# Altium footprint library Connector_Phoenix_MC.PcbLib: 180 footprints (part 6 of 12)
Each footprint in its own frame and in the unit in brackets; x right, y up, seen from the top. Pads: shape width x height; smd on the part's side, far side on the other; paste and mask are expansions set on the pad; w line width, h text height; cw(c..) or ccw(c..) is an arc to the next point about the centre after c.
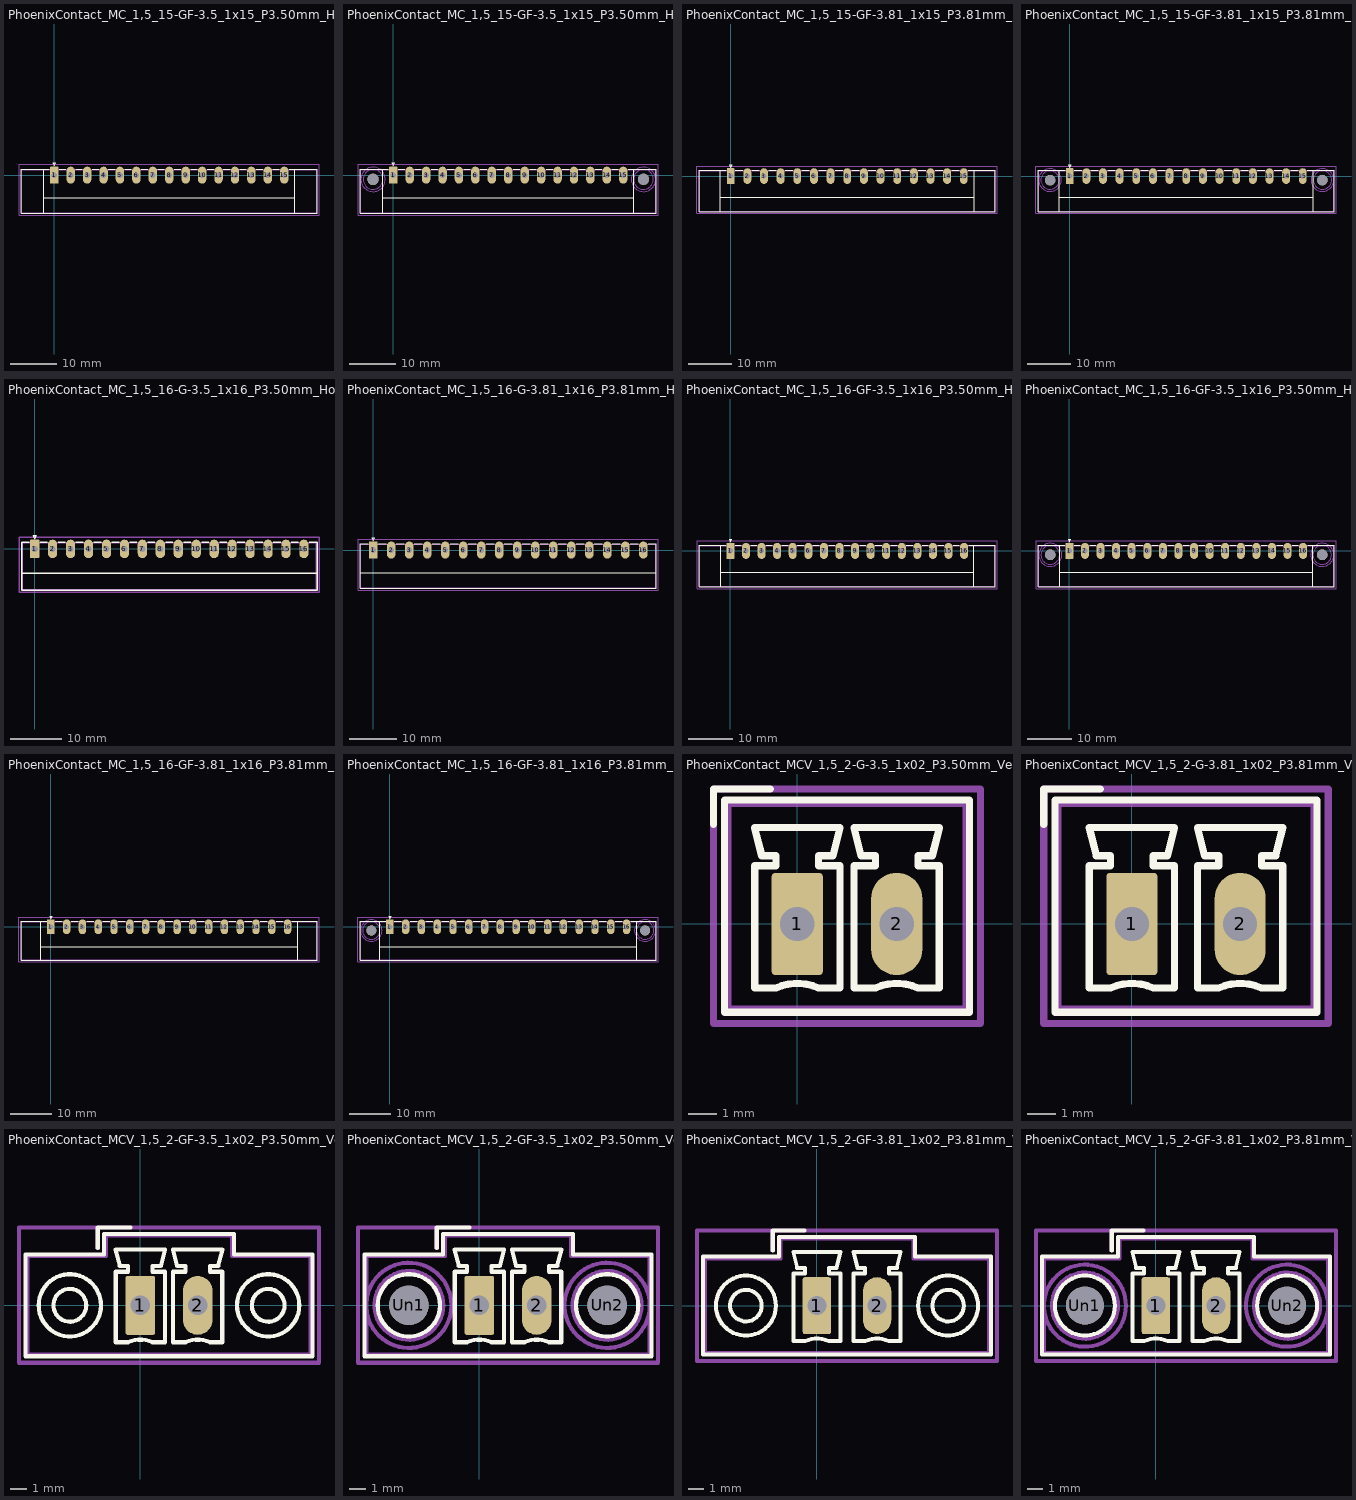
[diagram p5: the footprints below, top view; thin cyan lines are the x and y axes]

## PhoenixContact_MC_1,5_15-GF-3.5_1x15_P3.50mm_Horizontal_ThreadedFlange [mm]
pads (15):
  rrect14% 1.8x3.6 hole 1.2: 1(0,0)
  rrect100% 1.8x3.6 hole 1.2: 2(3.5,0) 3(7,0) 4(10.5,0) 5(14,0) 6(17.5,0) 7(21,0) 8(24.5,0) 9(28,0) 10(31.5,0) 11(35,0) 12(38.5,0) 13(42,0) 14(45.5,0) 15(49,0)
F.SilkS:
  lines w0.254: -2.21,-8.11 -2.21,1.31 ; -2.21,-4.8 51.21,-4.8 ; -1.05,1.31 -7.01,1.31 -7.01,-8.11 56.01,-8.11 56.01,1.31 50.05,1.31 ; 1.05,1.31 2.45,1.31 ; 4.55,1.31 5.95,1.31 ; 8.05,1.31 9.45,1.31 ; 11.55,1.31 12.95,1.31 ; 15.05,1.31 16.45,1.31 ; 18.55,1.31 19.95,1.31 ; 22.05,1.31 23.45,1.31 ; 25.55,1.31 26.95,1.31 ; 29.05,1.31 30.45,1.31 ; 32.55,1.31 33.95,1.31 ; 36.05,1.31 37.45,1.31 ; 39.55,1.31 40.95,1.31 ; 43.05,1.31 44.45,1.31 ; 46.55,1.31 47.95,1.31 ; 51.21,-8.11 51.21,1.31 ; -0.3,2.6 0,2 0.3,2.6 -0.3,2.6
Top Assembly:
  lines w0.254: -0.8,1.2 0,0 0.8,1.2 ; -6.9,-8 55.9,-8 55.9,1.2 -6.9,1.2 -6.9,-8
  text "'.Designator'" at 20.453,-0.34 h1
Top Courtyard:
  lines w0.254: -7.51,-8.5 56.4,-8.5 56.4,2.3 -7.51,2.3 -7.51,-8.5
Top Designator:
  text ".Designator" at 16.827,-3.458 h1.52

## PhoenixContact_MC_1,5_15-GF-3.5_1x15_P3.50mm_Horizontal_ThreadedFlange_MountHole [mm]
pads (17):
  rrect14% 1.8x3.6 hole 1.2: 1(0,0)
  rrect100% 1.8x3.6 hole 1.2: 2(3.5,0) 3(7,0) 4(10.5,0) 5(14,0) 6(17.5,0) 7(21,0) 8(24.5,0) 9(28,0) 10(31.5,0) 11(35,0) 12(38.5,0) 13(42,0) 14(45.5,0) 15(49,0)
  round 2.4 hole 2.4: Un1(-4.3,-0.9) Un2(53.3,-0.9)
F.SilkS:
  lines w0.254: -2.21,-8.11 -2.21,1.31 ; -2.21,-4.8 51.21,-4.8 ; -1.05,1.31 -7.01,1.31 -7.01,-8.11 56.01,-8.11 56.01,1.31 50.05,1.31 ; 1.05,1.31 2.45,1.31 ; 4.55,1.31 5.95,1.31 ; 8.05,1.31 9.45,1.31 ; 11.55,1.31 12.95,1.31 ; 15.05,1.31 16.45,1.31 ; 18.55,1.31 19.95,1.31 ; 22.05,1.31 23.45,1.31 ; 25.55,1.31 26.95,1.31 ; 29.05,1.31 30.45,1.31 ; 32.55,1.31 33.95,1.31 ; 36.05,1.31 37.45,1.31 ; 39.55,1.31 40.95,1.31 ; 43.05,1.31 44.45,1.31 ; 46.55,1.31 47.95,1.31 ; 51.21,-8.11 51.21,1.31 ; -0.3,2.6 0,2 0.3,2.6 -0.3,2.6
B.SilkS:
  circle w0.254: c53.3,-0.9 r2.21
  circle w0.254: c-4.3,-0.9 r2.21
Top Assembly:
  lines w0.254: -0.8,1.2 0,0 0.8,1.2 ; -6.9,-8 55.9,-8 55.9,1.2 -6.9,1.2 -6.9,-8
  text "'.Designator'" at 20.453,-0.34 h1
Bottom Assembly:
  circle w0.254: c53.3,-0.9 r2.1
  circle w0.254: c-4.3,-0.9 r2.1
Top Courtyard:
  lines w0.254: -7.51,-8.5 56.4,-8.5 56.4,2.3 -7.51,2.3 -7.51,-8.5
Bottom Courtyard:
  circle w0.254: c53.3,-0.9 r2.6
  circle w0.254: c-4.3,-0.9 r2.6
Top Designator:
  text ".Designator" at 16.827,-3.458 h1.52

## PhoenixContact_MC_1,5_15-GF-3.81_1x15_P3.81mm_Horizontal_ThreadedFlange [mm]
pads (15):
  rrect14% 1.8x3.6 hole 1.2: 1(0,0)
  rrect100% 1.8x3.6 hole 1.2: 2(3.81,0) 3(7.62,0) 4(11.43,0) 5(15.24,0) 6(19.05,0) 7(22.86,0) 8(26.67,0) 9(30.48,0) 10(34.29,0) 11(38.1,0) 12(41.91,0) 13(45.72,0) 14(49.53,0) 15(53.34,0)
F.SilkS:
  lines w0.254: -2.41,-8.11 -2.41,1.31 ; -2.41,-4.8 55.75,-4.8 ; -1.05,1.31 -7.21,1.31 -7.21,-8.11 60.55,-8.11 60.55,1.31 54.39,1.31 ; 1.05,1.31 2.76,1.31 ; 4.86,1.31 6.57,1.31 ; 8.67,1.31 10.38,1.31 ; 12.48,1.31 14.19,1.31 ; 16.29,1.31 18,1.31 ; 20.1,1.31 21.81,1.31 ; 23.91,1.31 25.62,1.31 ; 27.72,1.31 29.43,1.31 ; 31.53,1.31 33.24,1.31 ; 35.34,1.31 37.05,1.31 ; 39.15,1.31 40.86,1.31 ; 42.96,1.31 44.67,1.31 ; 46.77,1.31 48.48,1.31 ; 50.58,1.31 52.29,1.31 ; 55.75,-8.11 55.75,1.31 ; -0.3,2.6 0,2 0.3,2.6 -0.3,2.6
Top Assembly:
  lines w0.254: -0.8,1.2 0,0 0.8,1.2 ; -7.1,-8 60.44,-8 60.44,1.2 -7.1,1.2 -7.1,-8
  text "'.Designator'" at 22.623,-0.34 h1
Top Courtyard:
  lines w0.254: -7.71,-8.5 60.94,-8.5 60.94,2.3 -7.71,2.3 -7.71,-8.5
Top Designator:
  text ".Designator" at 18.997,-3.458 h1.52

## PhoenixContact_MC_1,5_15-GF-3.81_1x15_P3.81mm_Horizontal_ThreadedFlange_MountHole [mm]
pads (17):
  rrect14% 1.8x3.6 hole 1.2: 1(0,0)
  rrect100% 1.8x3.6 hole 1.2: 2(3.81,0) 3(7.62,0) 4(11.43,0) 5(15.24,0) 6(19.05,0) 7(22.86,0) 8(26.67,0) 9(30.48,0) 10(34.29,0) 11(38.1,0) 12(41.91,0) 13(45.72,0) 14(49.53,0) 15(53.34,0)
  round 2.4 hole 2.4: Un1(-4.5,-0.9) Un2(57.84,-0.9)
F.SilkS:
  lines w0.254: -2.41,-8.11 -2.41,1.31 ; -2.41,-4.8 55.75,-4.8 ; -1.05,1.31 -7.21,1.31 -7.21,-8.11 60.55,-8.11 60.55,1.31 54.39,1.31 ; 1.05,1.31 2.76,1.31 ; 4.86,1.31 6.57,1.31 ; 8.67,1.31 10.38,1.31 ; 12.48,1.31 14.19,1.31 ; 16.29,1.31 18,1.31 ; 20.1,1.31 21.81,1.31 ; 23.91,1.31 25.62,1.31 ; 27.72,1.31 29.43,1.31 ; 31.53,1.31 33.24,1.31 ; 35.34,1.31 37.05,1.31 ; 39.15,1.31 40.86,1.31 ; 42.96,1.31 44.67,1.31 ; 46.77,1.31 48.48,1.31 ; 50.58,1.31 52.29,1.31 ; 55.75,-8.11 55.75,1.31 ; -0.3,2.6 0,2 0.3,2.6 -0.3,2.6
B.SilkS:
  circle w0.254: c57.84,-0.9 r2.21
  circle w0.254: c-4.5,-0.9 r2.21
Top Assembly:
  lines w0.254: -0.8,1.2 0,0 0.8,1.2 ; -7.1,-8 60.44,-8 60.44,1.2 -7.1,1.2 -7.1,-8
  text "'.Designator'" at 22.623,-0.34 h1
Bottom Assembly:
  circle w0.254: c57.84,-0.9 r2.1
  circle w0.254: c-4.5,-0.9 r2.1
Top Courtyard:
  lines w0.254: -7.71,-8.5 60.94,-8.5 60.94,2.3 -7.71,2.3 -7.71,-8.5
Bottom Courtyard:
  circle w0.254: c57.84,-0.9 r2.6
  circle w0.254: c-4.5,-0.9 r2.6
Top Designator:
  text ".Designator" at 18.997,-3.458 h1.52

## PhoenixContact_MC_1,5_16-G-3.5_1x16_P3.50mm_Horizontal [mm]
pads (16):
  rrect14% 1.8x3.6 hole 1.2: 1(0,0)
  rrect100% 1.8x3.6 hole 1.2: 2(3.5,0) 3(7,0) 4(10.5,0) 5(14,0) 6(17.5,0) 7(21,0) 8(24.5,0) 9(28,0) 10(31.5,0) 11(35,0) 12(38.5,0) 13(42,0) 14(45.5,0) 15(49,0) 16(52.5,0)
F.SilkS:
  lines w0.254: -2.56,-4.8 55.06,-4.8 ; -1.05,1.31 -2.56,1.31 -2.56,-8.11 55.06,-8.11 55.06,1.31 53.55,1.31 ; 1.05,1.31 2.45,1.31 ; 4.55,1.31 5.95,1.31 ; 8.05,1.31 9.45,1.31 ; 11.55,1.31 12.95,1.31 ; 15.05,1.31 16.45,1.31 ; 18.55,1.31 19.95,1.31 ; 22.05,1.31 23.45,1.31 ; 25.55,1.31 26.95,1.31 ; 29.05,1.31 30.45,1.31 ; 32.55,1.31 33.95,1.31 ; 36.05,1.31 37.45,1.31 ; 39.55,1.31 40.95,1.31 ; 43.05,1.31 44.45,1.31 ; 46.55,1.31 47.95,1.31 ; 50.05,1.31 51.45,1.31 ; -0.3,2.6 0,2 0.3,2.6 -0.3,2.6
Top Assembly:
  lines w0.254: -0.8,1.2 0,0 0.8,1.2 ; -2.45,-8 54.95,-8 54.95,1.2 -2.45,1.2 -2.45,-8
  text "'.Designator'" at 22.203,-0.34 h1
Top Courtyard:
  lines w0.254: -3.06,-8.5 55.45,-8.5 55.45,2.3 -3.06,2.3 -3.06,-8.5
Top Designator:
  text ".Designator" at 18.577,-3.458 h1.52

## PhoenixContact_MC_1,5_16-G-3.81_1x16_P3.81mm_Horizontal [mm]
pads (16):
  rrect14% 1.8x3.6 hole 1.2: 1(0,0)
  rrect100% 1.8x3.6 hole 1.2: 2(3.81,0) 3(7.62,0) 4(11.43,0) 5(15.24,0) 6(19.05,0) 7(22.86,0) 8(26.67,0) 9(30.48,0) 10(34.29,0) 11(38.1,0) 12(41.91,0) 13(45.72,0) 14(49.53,0) 15(53.34,0) 16(57.15,0)
F.SilkS:
  lines w0.254: -2.71,-4.8 59.86,-4.8 ; -1.05,1.31 -2.71,1.31 -2.71,-8.11 59.86,-8.11 59.86,1.31 58.2,1.31 ; 1.05,1.31 2.76,1.31 ; 4.86,1.31 6.57,1.31 ; 8.67,1.31 10.38,1.31 ; 12.48,1.31 14.19,1.31 ; 16.29,1.31 18,1.31 ; 20.1,1.31 21.81,1.31 ; 23.91,1.31 25.62,1.31 ; 27.72,1.31 29.43,1.31 ; 31.53,1.31 33.24,1.31 ; 35.34,1.31 37.05,1.31 ; 39.15,1.31 40.86,1.31 ; 42.96,1.31 44.67,1.31 ; 46.77,1.31 48.48,1.31 ; 50.58,1.31 52.29,1.31 ; 54.39,1.31 56.1,1.31 ; -0.3,2.6 0,2 0.3,2.6 -0.3,2.6
Top Assembly:
  lines w0.254: -0.8,1.2 0,0 0.8,1.2 ; -2.6,-8 59.75,-8 59.75,1.2 -2.6,1.2 -2.6,-8
  text "'.Designator'" at 24.533,-0.34 h1
Top Courtyard:
  lines w0.254: -3.21,-8.5 60.25,-8.5 60.25,2.3 -3.21,2.3 -3.21,-8.5
Top Designator:
  text ".Designator" at 20.902,-3.458 h1.52

## PhoenixContact_MC_1,5_16-GF-3.5_1x16_P3.50mm_Horizontal_ThreadedFlange [mm]
pads (16):
  rrect14% 1.8x3.6 hole 1.2: 1(0,0)
  rrect100% 1.8x3.6 hole 1.2: 2(3.5,0) 3(7,0) 4(10.5,0) 5(14,0) 6(17.5,0) 7(21,0) 8(24.5,0) 9(28,0) 10(31.5,0) 11(35,0) 12(38.5,0) 13(42,0) 14(45.5,0) 15(49,0) 16(52.5,0)
F.SilkS:
  lines w0.254: -2.21,-8.11 -2.21,1.31 ; -2.21,-4.8 54.71,-4.8 ; -1.05,1.31 -7.01,1.31 -7.01,-8.11 59.51,-8.11 59.51,1.31 53.55,1.31 ; 1.05,1.31 2.45,1.31 ; 4.55,1.31 5.95,1.31 ; 8.05,1.31 9.45,1.31 ; 11.55,1.31 12.95,1.31 ; 15.05,1.31 16.45,1.31 ; 18.55,1.31 19.95,1.31 ; 22.05,1.31 23.45,1.31 ; 25.55,1.31 26.95,1.31 ; 29.05,1.31 30.45,1.31 ; 32.55,1.31 33.95,1.31 ; 36.05,1.31 37.45,1.31 ; 39.55,1.31 40.95,1.31 ; 43.05,1.31 44.45,1.31 ; 46.55,1.31 47.95,1.31 ; 50.05,1.31 51.45,1.31 ; 54.71,-8.11 54.71,1.31 ; -0.3,2.6 0,2 0.3,2.6 -0.3,2.6
Top Assembly:
  lines w0.254: -0.8,1.2 0,0 0.8,1.2 ; -6.9,-8 59.4,-8 59.4,1.2 -6.9,1.2 -6.9,-8
  text "'.Designator'" at 22.203,-0.34 h1
Top Courtyard:
  lines w0.254: -7.51,-8.5 59.9,-8.5 59.9,2.3 -7.51,2.3 -7.51,-8.5
Top Designator:
  text ".Designator" at 18.577,-3.458 h1.52

## PhoenixContact_MC_1,5_16-GF-3.5_1x16_P3.50mm_Horizontal_ThreadedFlange_MountHole [mm]
pads (18):
  rrect14% 1.8x3.6 hole 1.2: 1(0,0)
  rrect100% 1.8x3.6 hole 1.2: 2(3.5,0) 3(7,0) 4(10.5,0) 5(14,0) 6(17.5,0) 7(21,0) 8(24.5,0) 9(28,0) 10(31.5,0) 11(35,0) 12(38.5,0) 13(42,0) 14(45.5,0) 15(49,0) 16(52.5,0)
  round 2.4 hole 2.4: Un1(-4.3,-0.9) Un2(56.8,-0.9)
F.SilkS:
  lines w0.254: -2.21,-8.11 -2.21,1.31 ; -2.21,-4.8 54.71,-4.8 ; -1.05,1.31 -7.01,1.31 -7.01,-8.11 59.51,-8.11 59.51,1.31 53.55,1.31 ; 1.05,1.31 2.45,1.31 ; 4.55,1.31 5.95,1.31 ; 8.05,1.31 9.45,1.31 ; 11.55,1.31 12.95,1.31 ; 15.05,1.31 16.45,1.31 ; 18.55,1.31 19.95,1.31 ; 22.05,1.31 23.45,1.31 ; 25.55,1.31 26.95,1.31 ; 29.05,1.31 30.45,1.31 ; 32.55,1.31 33.95,1.31 ; 36.05,1.31 37.45,1.31 ; 39.55,1.31 40.95,1.31 ; 43.05,1.31 44.45,1.31 ; 46.55,1.31 47.95,1.31 ; 50.05,1.31 51.45,1.31 ; 54.71,-8.11 54.71,1.31 ; -0.3,2.6 0,2 0.3,2.6 -0.3,2.6
B.SilkS:
  circle w0.254: c56.8,-0.9 r2.21
  circle w0.254: c-4.3,-0.9 r2.21
Top Assembly:
  lines w0.254: -0.8,1.2 0,0 0.8,1.2 ; -6.9,-8 59.4,-8 59.4,1.2 -6.9,1.2 -6.9,-8
  text "'.Designator'" at 22.203,-0.34 h1
Bottom Assembly:
  circle w0.254: c56.8,-0.9 r2.1
  circle w0.254: c-4.3,-0.9 r2.1
Top Courtyard:
  lines w0.254: -7.51,-8.5 59.9,-8.5 59.9,2.3 -7.51,2.3 -7.51,-8.5
Bottom Courtyard:
  circle w0.254: c56.8,-0.9 r2.6
  circle w0.254: c-4.3,-0.9 r2.6
Top Designator:
  text ".Designator" at 18.577,-3.458 h1.52

## PhoenixContact_MC_1,5_16-GF-3.81_1x16_P3.81mm_Horizontal_ThreadedFlange [mm]
pads (16):
  rrect14% 1.8x3.6 hole 1.2: 1(0,0)
  rrect100% 1.8x3.6 hole 1.2: 2(3.81,0) 3(7.62,0) 4(11.43,0) 5(15.24,0) 6(19.05,0) 7(22.86,0) 8(26.67,0) 9(30.48,0) 10(34.29,0) 11(38.1,0) 12(41.91,0) 13(45.72,0) 14(49.53,0) 15(53.34,0) 16(57.15,0)
F.SilkS:
  lines w0.254: -2.41,-8.11 -2.41,1.31 ; -2.41,-4.8 59.56,-4.8 ; -1.05,1.31 -7.21,1.31 -7.21,-8.11 64.36,-8.11 64.36,1.31 58.2,1.31 ; 1.05,1.31 2.76,1.31 ; 4.86,1.31 6.57,1.31 ; 8.67,1.31 10.38,1.31 ; 12.48,1.31 14.19,1.31 ; 16.29,1.31 18,1.31 ; 20.1,1.31 21.81,1.31 ; 23.91,1.31 25.62,1.31 ; 27.72,1.31 29.43,1.31 ; 31.53,1.31 33.24,1.31 ; 35.34,1.31 37.05,1.31 ; 39.15,1.31 40.86,1.31 ; 42.96,1.31 44.67,1.31 ; 46.77,1.31 48.48,1.31 ; 50.58,1.31 52.29,1.31 ; 54.39,1.31 56.1,1.31 ; 59.56,-8.11 59.56,1.31 ; -0.3,2.6 0,2 0.3,2.6 -0.3,2.6
Top Assembly:
  lines w0.254: -0.8,1.2 0,0 0.8,1.2 ; -7.1,-8 64.25,-8 64.25,1.2 -7.1,1.2 -7.1,-8
  text "'.Designator'" at 24.533,-0.34 h1
Top Courtyard:
  lines w0.254: -7.71,-8.5 64.75,-8.5 64.75,2.3 -7.71,2.3 -7.71,-8.5
Top Designator:
  text ".Designator" at 20.902,-3.458 h1.52

## PhoenixContact_MC_1,5_16-GF-3.81_1x16_P3.81mm_Horizontal_ThreadedFlange_MountHole [mm]
pads (18):
  rrect14% 1.8x3.6 hole 1.2: 1(0,0)
  rrect100% 1.8x3.6 hole 1.2: 2(3.81,0) 3(7.62,0) 4(11.43,0) 5(15.24,0) 6(19.05,0) 7(22.86,0) 8(26.67,0) 9(30.48,0) 10(34.29,0) 11(38.1,0) 12(41.91,0) 13(45.72,0) 14(49.53,0) 15(53.34,0) 16(57.15,0)
  round 2.4 hole 2.4: Un1(-4.5,-0.9) Un2(61.65,-0.9)
F.SilkS:
  lines w0.254: -2.41,-8.11 -2.41,1.31 ; -2.41,-4.8 59.56,-4.8 ; -1.05,1.31 -7.21,1.31 -7.21,-8.11 64.36,-8.11 64.36,1.31 58.2,1.31 ; 1.05,1.31 2.76,1.31 ; 4.86,1.31 6.57,1.31 ; 8.67,1.31 10.38,1.31 ; 12.48,1.31 14.19,1.31 ; 16.29,1.31 18,1.31 ; 20.1,1.31 21.81,1.31 ; 23.91,1.31 25.62,1.31 ; 27.72,1.31 29.43,1.31 ; 31.53,1.31 33.24,1.31 ; 35.34,1.31 37.05,1.31 ; 39.15,1.31 40.86,1.31 ; 42.96,1.31 44.67,1.31 ; 46.77,1.31 48.48,1.31 ; 50.58,1.31 52.29,1.31 ; 54.39,1.31 56.1,1.31 ; 59.56,-8.11 59.56,1.31 ; -0.3,2.6 0,2 0.3,2.6 -0.3,2.6
B.SilkS:
  circle w0.254: c61.65,-0.9 r2.21
  circle w0.254: c-4.5,-0.9 r2.21
Top Assembly:
  lines w0.254: -0.8,1.2 0,0 0.8,1.2 ; -7.1,-8 64.25,-8 64.25,1.2 -7.1,1.2 -7.1,-8
  text "'.Designator'" at 24.533,-0.34 h1
Bottom Assembly:
  circle w0.254: c61.65,-0.9 r2.1
  circle w0.254: c-4.5,-0.9 r2.1
Top Courtyard:
  lines w0.254: -7.71,-8.5 64.75,-8.5 64.75,2.3 -7.71,2.3 -7.71,-8.5
Bottom Courtyard:
  circle w0.254: c61.65,-0.9 r2.6
  circle w0.254: c-4.5,-0.9 r2.6
Top Designator:
  text ".Designator" at 20.902,-3.458 h1.52

## PhoenixContact_MCV_1,5_2-G-3.5_1x02_P3.50mm_Vertical [mm]
pads (2):
  rrect14% 1.8x3.6 hole 1.2: 1(0,0)
  rrect100% 1.8x3.6 hole 1.2: 2(3.5,0)
F.SilkS:
  lines w0.254: -2.95,3.5 -2.95,4.75 -0.95,4.75 ; 0.75,-2.25 ccw(c0,-3.95) -0.75,-2.25 -1.5,-2.25 -1.5,2.05 -0.75,2.05 -0.75,2.4 -1.25,2.4 -1.5,3.4 1.5,3.4 1.25,2.4 0.75,2.4 0.75,2.05 1.5,2.05 1.5,-2.25 0.75,-2.25 ; -2.56,-3.11 6.06,-3.11 6.06,4.36 -2.56,4.36 -2.56,-3.11 ; 2,-2.25 2.75,-2.25 cw(c3.5,-3.95) 4.25,-2.25 5,-2.25 5,2.05 4.25,2.05 4.25,2.4 4.75,2.4 5,3.4 2,3.4 2.25,2.4 2.75,2.4 2.75,2.05 2,2.05 2,-2.25
Top Assembly:
  lines w0.254: -2.95,3.5 -2.95,4.75 -0.95,4.75 ; -2.45,-3 5.95,-3 5.95,4.25 -2.45,4.25 -2.45,-3
  text "'.Designator'" at -2.297,2.71 h1
Top Courtyard:
  lines w0.254: -2.95,-3.5 6.45,-3.5 6.45,4.75 -2.95,4.75 -2.95,-3.5
Top Designator:
  text ".Designator" at -5.868,0.117 h1.52

## PhoenixContact_MCV_1,5_2-G-3.81_1x02_P3.81mm_Vertical [mm]
pads (2):
  rrect14% 1.8x3.6 hole 1.2: 1(0,0)
  rrect100% 1.8x3.6 hole 1.2: 2(3.81,0)
F.SilkS:
  lines w0.254: -3.1,3.5 -3.1,4.75 -1.1,4.75 ; 0.75,-2.25 ccw(c0,-3.95) -0.75,-2.25 -1.5,-2.25 -1.5,2.05 -0.75,2.05 -0.75,2.4 -1.25,2.4 -1.5,3.4 1.5,3.4 1.25,2.4 0.75,2.4 0.75,2.05 1.5,2.05 1.5,-2.25 0.75,-2.25 ; 4.56,-2.25 ccw(c3.81,-3.95) 3.06,-2.25 2.31,-2.25 2.31,2.05 3.06,2.05 3.06,2.4 2.56,2.4 2.31,3.4 5.31,3.4 5.06,2.4 4.56,2.4 4.56,2.05 5.31,2.05 5.31,-2.25 4.56,-2.25 ; -2.71,-3.11 6.52,-3.11 6.52,4.36 -2.71,4.36 -2.71,-3.11
Top Assembly:
  lines w0.254: -3.1,3.5 -3.1,4.75 -1.1,4.75 ; -2.6,-3 6.41,-3 6.41,4.25 -2.6,4.25 -2.6,-3
  text "'.Designator'" at -2.147,2.71 h1
Top Courtyard:
  lines w0.254: -3.1,-3.5 6.91,-3.5 6.91,4.75 -3.1,4.75 -3.1,-3.5
Top Designator:
  text ".Designator" at -5.713,0.117 h1.52

## PhoenixContact_MCV_1,5_2-GF-3.5_1x02_P3.50mm_Vertical_ThreadedFlange [mm]
pads (2):
  rrect14% 1.8x3.6 hole 1.2: 1(0,0)
  rrect100% 1.8x3.6 hole 1.2: 2(3.5,0)
F.SilkS:
  circle w0.254: c7.8,0 r1.9
  circle w0.254: c7.8,0 r1
  circle w0.254: c-4.3,0 r1.9
  circle w0.254: c-4.3,0 r1
  lines w0.254: -2.6,3.5 -2.6,4.75 -0.6,4.75 ; 0.75,-2.25 ccw(c0,-3.95) -0.75,-2.25 -1.5,-2.25 -1.5,2.05 -0.75,2.05 -0.75,2.4 -1.25,2.4 -1.5,3.4 1.5,3.4 1.25,2.4 0.75,2.4 0.75,2.05 1.5,2.05 1.5,-2.25 0.75,-2.25 ; -7.01,-3.11 10.51,-3.11 10.51,3.11 5.71,3.11 5.71,4.36 -2.21,4.36 -2.21,3.11 -7.01,3.11 -7.01,-3.11 ; 2,-2.25 2.75,-2.25 cw(c3.5,-3.95) 4.25,-2.25 5,-2.25 5,2.05 4.25,2.05 4.25,2.4 4.75,2.4 5,3.4 2,3.4 2.25,2.4 2.75,2.4 2.75,2.05 2,2.05 2,-2.25
Top Assembly:
  lines w0.254: -2.6,3.5 -2.6,4.75 -0.6,4.75 ; -6.9,-3 10.4,-3 10.4,3 5.6,3 5.6,4.25 -2.1,4.25 -2.1,3 -6.9,3 -6.9,-3
  text "'.Designator'" at -2.297,2.71 h1
Top Courtyard:
  lines w0.254: -7.4,-3.5 10.9,-3.5 10.9,4.75 -7.4,4.75 -7.4,-3.5
Top Designator:
  text ".Designator" at -5.868,0.117 h1.52

## PhoenixContact_MCV_1,5_2-GF-3.5_1x02_P3.50mm_Vertical_ThreadedFlange_MountHole [mm]
pads (4):
  rrect14% 1.8x3.6 hole 1.2: 1(0,0)
  rrect100% 1.8x3.6 hole 1.2: 2(3.5,0)
  round 2.4 hole 2.4: Un1(-4.3,0) Un2(7.8,0)
F.SilkS:
  circle w0.254: c7.8,0 r1.9
  circle w0.254: c-4.3,0 r1.9
  lines w0.254: -2.6,3.5 -2.6,4.75 -0.6,4.75 ; 0.75,-2.25 ccw(c0,-3.95) -0.75,-2.25 -1.5,-2.25 -1.5,2.05 -0.75,2.05 -0.75,2.4 -1.25,2.4 -1.5,3.4 1.5,3.4 1.25,2.4 0.75,2.4 0.75,2.05 1.5,2.05 1.5,-2.25 0.75,-2.25 ; -7.01,-3.11 10.51,-3.11 10.51,3.11 5.71,3.11 5.71,4.36 -2.21,4.36 -2.21,3.11 -7.01,3.11 -7.01,-3.11 ; 2,-2.25 2.75,-2.25 cw(c3.5,-3.95) 4.25,-2.25 5,-2.25 5,2.05 4.25,2.05 4.25,2.4 4.75,2.4 5,3.4 2,3.4 2.25,2.4 2.75,2.4 2.75,2.05 2,2.05 2,-2.25
B.SilkS:
  circle w0.254: c7.8,0 r2.21
  circle w0.254: c-4.3,0 r2.21
Top Assembly:
  lines w0.254: -2.6,3.5 -2.6,4.75 -0.6,4.75 ; -6.9,-3 10.4,-3 10.4,3 5.6,3 5.6,4.25 -2.1,4.25 -2.1,3 -6.9,3 -6.9,-3
  text "'.Designator'" at -2.297,2.71 h1
Bottom Assembly:
  circle w0.254: c7.8,0 r2.1
  circle w0.254: c-4.3,0 r2.1
Top Courtyard:
  lines w0.254: -7.4,-3.5 10.9,-3.5 10.9,4.75 -7.4,4.75 -7.4,-3.5
Bottom Courtyard:
  circle w0.254: c7.8,0 r2.6
  circle w0.254: c-4.3,0 r2.6
Top Designator:
  text ".Designator" at -5.868,0.117 h1.52

## PhoenixContact_MCV_1,5_2-GF-3.81_1x02_P3.81mm_Vertical_ThreadedFlange [mm]
pads (2):
  rrect14% 1.8x3.6 hole 1.2: 1(0,0)
  rrect100% 1.8x3.6 hole 1.2: 2(3.81,0)
F.SilkS:
  circle w0.254: c8.31,0 r1.9
  circle w0.254: c8.31,0 r1
  circle w0.254: c-4.5,0 r1.9
  circle w0.254: c-4.5,0 r1
  lines w0.254: -2.8,3.5 -2.8,4.75 -0.8,4.75 ; 0.75,-2.25 ccw(c0,-3.95) -0.75,-2.25 -1.5,-2.25 -1.5,2.05 -0.75,2.05 -0.75,2.4 -1.25,2.4 -1.5,3.4 1.5,3.4 1.25,2.4 0.75,2.4 0.75,2.05 1.5,2.05 1.5,-2.25 0.75,-2.25 ; 4.56,-2.25 ccw(c3.81,-3.95) 3.06,-2.25 2.31,-2.25 2.31,2.05 3.06,2.05 3.06,2.4 2.56,2.4 2.31,3.4 5.31,3.4 5.06,2.4 4.56,2.4 4.56,2.05 5.31,2.05 5.31,-2.25 4.56,-2.25 ; -7.21,-3.11 11.02,-3.11 11.02,3.11 6.22,3.11 6.22,4.36 -2.41,4.36 -2.41,3.11 -7.21,3.11 -7.21,-3.11
Top Assembly:
  lines w0.254: -2.8,3.5 -2.8,4.75 -0.8,4.75 ; -7.1,-3 10.91,-3 10.91,3 6.11,3 6.11,4.25 -2.3,4.25 -2.3,3 -7.1,3 -7.1,-3
  text "'.Designator'" at -2.147,2.71 h1
Top Courtyard:
  lines w0.254: -7.6,-3.5 11.41,-3.5 11.41,4.75 -7.6,4.75 -7.6,-3.5
Top Designator:
  text ".Designator" at -5.713,0.117 h1.52

## PhoenixContact_MCV_1,5_2-GF-3.81_1x02_P3.81mm_Vertical_ThreadedFlange_MountHole [mm]
pads (4):
  rrect14% 1.8x3.6 hole 1.2: 1(0,0)
  rrect100% 1.8x3.6 hole 1.2: 2(3.81,0)
  round 2.4 hole 2.4: Un1(-4.5,0) Un2(8.31,0)
F.SilkS:
  circle w0.254: c8.31,0 r1.9
  circle w0.254: c-4.5,0 r1.9
  lines w0.254: -2.8,3.5 -2.8,4.75 -0.8,4.75 ; 0.75,-2.25 ccw(c0,-3.95) -0.75,-2.25 -1.5,-2.25 -1.5,2.05 -0.75,2.05 -0.75,2.4 -1.25,2.4 -1.5,3.4 1.5,3.4 1.25,2.4 0.75,2.4 0.75,2.05 1.5,2.05 1.5,-2.25 0.75,-2.25 ; 4.56,-2.25 ccw(c3.81,-3.95) 3.06,-2.25 2.31,-2.25 2.31,2.05 3.06,2.05 3.06,2.4 2.56,2.4 2.31,3.4 5.31,3.4 5.06,2.4 4.56,2.4 4.56,2.05 5.31,2.05 5.31,-2.25 4.56,-2.25 ; -7.21,-3.11 11.02,-3.11 11.02,3.11 6.22,3.11 6.22,4.36 -2.41,4.36 -2.41,3.11 -7.21,3.11 -7.21,-3.11
B.SilkS:
  circle w0.254: c8.31,0 r2.21
  circle w0.254: c-4.5,0 r2.21
Top Assembly:
  lines w0.254: -2.8,3.5 -2.8,4.75 -0.8,4.75 ; -7.1,-3 10.91,-3 10.91,3 6.11,3 6.11,4.25 -2.3,4.25 -2.3,3 -7.1,3 -7.1,-3
  text "'.Designator'" at -2.147,2.71 h1
Bottom Assembly:
  circle w0.254: c8.31,0 r2.1
  circle w0.254: c-4.5,0 r2.1
Top Courtyard:
  lines w0.254: -7.6,-3.5 11.41,-3.5 11.41,4.75 -7.6,4.75 -7.6,-3.5
Bottom Courtyard:
  circle w0.254: c8.31,0 r2.6
  circle w0.254: c-4.5,0 r2.6
Top Designator:
  text ".Designator" at -5.713,0.117 h1.52